# Altium schematic symbol library ESQ-119-24-T-D.SchLib: 1 symbol
Pins are listed as number, name and electrical type; pins without a type are passive.

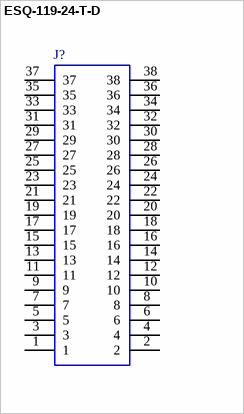
[diagram p0: symbol ESQ-119-24-T-D]

## ESQ-119-24-T-D
designator J?
.100" PC/104 Elevated Socket Strip,  positions per row,  row; Manufacturer_Name: SAMTEC; Mouser Part Number: 200-ESQ11924TD; Mouser Price/Stock: https://www.mouser.co.uk/ProductDetail/Samtec/ESQ-119-24-T-D?qs=Cqqh%252BS766wn0%252Bf8oeyus2A%3D%3D; Manufacturer_Part_Number: ESQ-119-24-T-D; Datasheet Link: http://suddendocs.samtec.com/prints/esq-1xx-xx-x-x-xxx-xx-x-xx-mkt.pdf
footprint ESQ-119-Y-X-D
pins: 1, 2, 3, 4, 5, 6, 7, 8, 9, 10, 11, 12, 13, 14, 15, 16, 17, 18, 19, 20, 21, 22, 23, 24, 25, 26, 27, 28, 29, 30, 31, 32, 33, 34, 35, 36, 37, 38